# EAGLE library part HEADER-2X5 (library microbuilder)
PIN HEADER
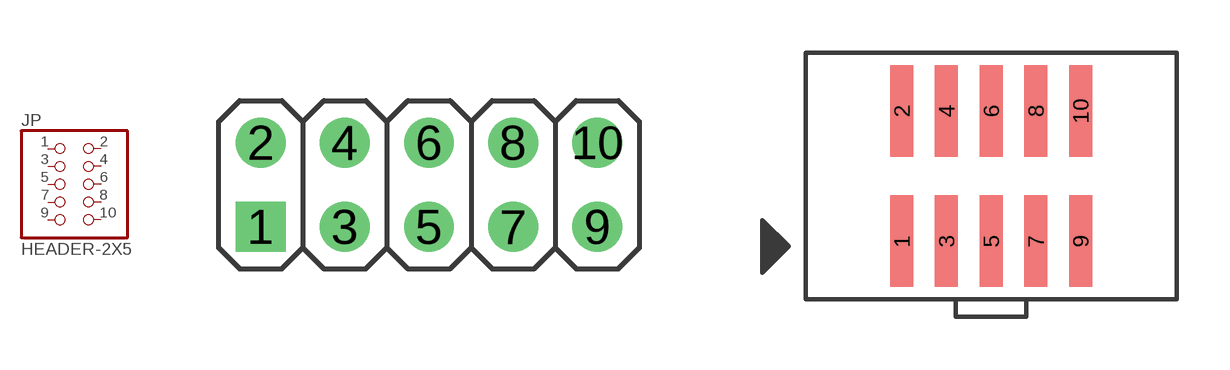
[diagram p10: symbol with the pads of 2X05; footprints 2X05, 2X05_1.27MM_SMT]

Designator prefix JP

## HEADER-2X5  [2X05]
1  1  pas
2  2  pas
3  3  pas
4  4  pas
5  5  pas
6  6  pas
7  7  pas
8  8  pas
9  9  pas
10  10  pas

## HEADER-2X51.27MM  [2X05_1.27MM_SMT]
Pads as for 2X05

## Footprint 2X05 (pad centres in mm)
PIN HEADER
drill 1 square: 1 -5.08,-1.27
drill 1 round: 2 -5.08,1.27; 3 -2.54,-1.27; 4 -2.54,1.27; 5 0,-1.27; 6 0,1.27; 7 2.54,-1.27; 8 2.54,1.27; 9 5.08,-1.27; 10 5.08,1.27

## Footprint 2X05_1.27MM_SMT (pad centres in mm)
2x05 1.27mm Headers SMT (2.0mm Height) 4UConnector: 16846
smd 0.65 x 2.6: 1 -2.54,-1.85; 2 -2.54,1.85; 3 -1.27,-1.85; 4 -1.27,1.85; 5 0,-1.85; 6 0,1.85; 7 1.27,-1.85; 8 1.27,1.85; 9 2.54,-1.85; 10 2.54,1.85